# Altium footprint library 摇杆电位计.PcbLib: 4 footprints
Each footprint in its own frame and in the unit in brackets; x right, y up, seen from the top. Pads: shape width x height; smd on the part's side, far side on the other; paste and mask are expansions set on the pad; w line width, h text height; cw(c..) or ccw(c..) is an arc to the next point about the centre after c.
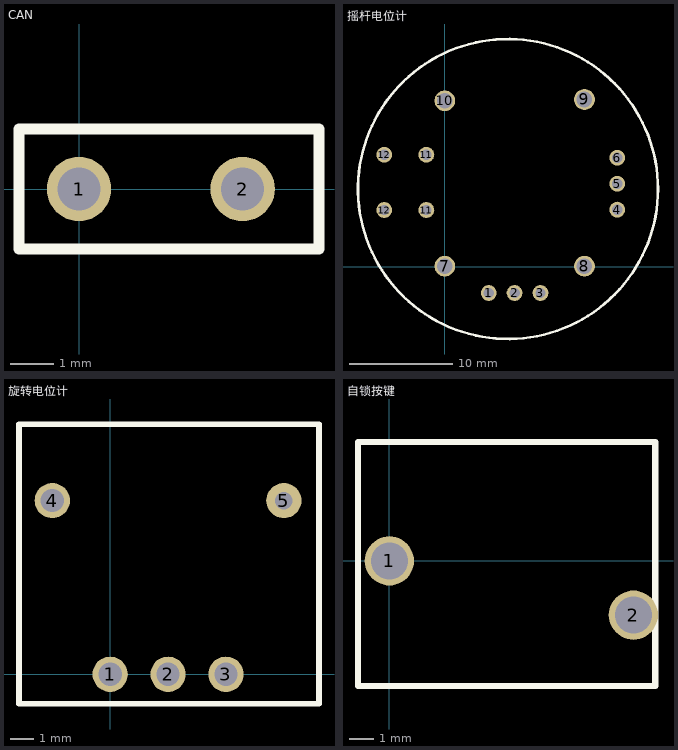
[diagram p0: the footprints below, top view; thin cyan lines are the x and y axes]

## CAN [mm]
pads (2):
  round 1.5 hole 1: 1(0,0) 2(3.81,0)
Top Overlay:
  lines w0.254: -1.397,-1.397 -1.397,1.397 5.588,1.397 5.588,-1.397 -1.397,-1.397

## 摇杆电位计 [mil]
pads (14):
  round 60 hole 39.37: 1(166.57,-100) 2(265,-100) 3(363.43,-100) 4(655,216.57) 5(655,315) 6(655,413.43) 11(-70,215) 11(-70,425) 12(-230,215) 12(-230,425)
  round 78.74 hole 59.06: 7(0,1.92) 8(530.48,1.92) 9(530.48,635) 10(0,629.92)
Top Overlay:
  circle w10: c240,295 r569.76

## 旋转电位计 [mil]
pads (5):
  round 60 hole 39.37: 1(0,0) 2(98.43,0) 3(196.85,0) 4(-98.43,295.28)
  round 60 hole 30: 5(295.28,295.28)
Top Overlay:
  lines w10: -155,-50 355,-50 355,425 -155,425 -155,-50

## 自锁按键 [mm]
pads (2):
  round 2 hole 1.5: 1(0.003,0) 2(9.906,-2.202)
Top Overlay:
  lines w0.254: -1.27,-5.08 -1.27,4.445 -1.27,4.699 -1.27,4.826 -1.143,4.826 10.795,4.826 10.795,-5.08 -1.27,-5.08